# Altium schematic symbol library Операционные_Усилители.SchLib: 3 symbols
Pins are listed as number, name and electrical type; pins without a type are passive.

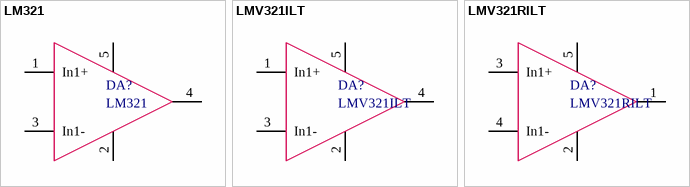
[diagram p0: symbols LM321 to LMV321RILT]

## LM321
designator DA?
Операционный усилитель SOT23-5 Rail-to-rail
footprint SOT53-5 (SOT23, 5-Leads, Body 2,90x2,80mm, Pitch 0,95mm, IPC Medium Density)
pins: 1 In1+, 2 GND, 3 In1-, 4 OUT, 5 VCC

## LMV321ILT
designator DA?
Операционный усилитель SOT23-5 Rail-to-rail; Operating range: 2.7...6V; Gain bandwidth product: 1 MHz
footprint SOT53-5 (SOT23, 5-Leads, Body 2,90x2,80mm, Pitch 0,95mm, IPC Medium Density)
pins: 1 In1+, 2 GND, 3 In1-, 4 OUT, 5 VCC

## LMV321RILT
designator DA?
Операционный усилитель SOT23-5 Rail-to-rail; Operating range: 2.7...6V; Gain bandwidth product: 1 MHz
footprint SOT53-5 (SOT23, 5-Leads, Body 2,90x2,80mm, Pitch 0,95mm, IPC Medium Density)
pins: 1 OUT, 2 GND, 3 In1+, 4 In1-, 5 VCC